# Altium footprint library TerminalBlock_Dinkle.PcbLib: 29 footprints (part 1 of 2)
Each footprint in its own frame and in the unit in brackets; x right, y up, seen from the top. Pads: shape width x height; smd on the part's side, far side on the other; paste and mask are expansions set on the pad; w line width, h text height; cw(c..) or ccw(c..) is an arc to the next point about the centre after c.
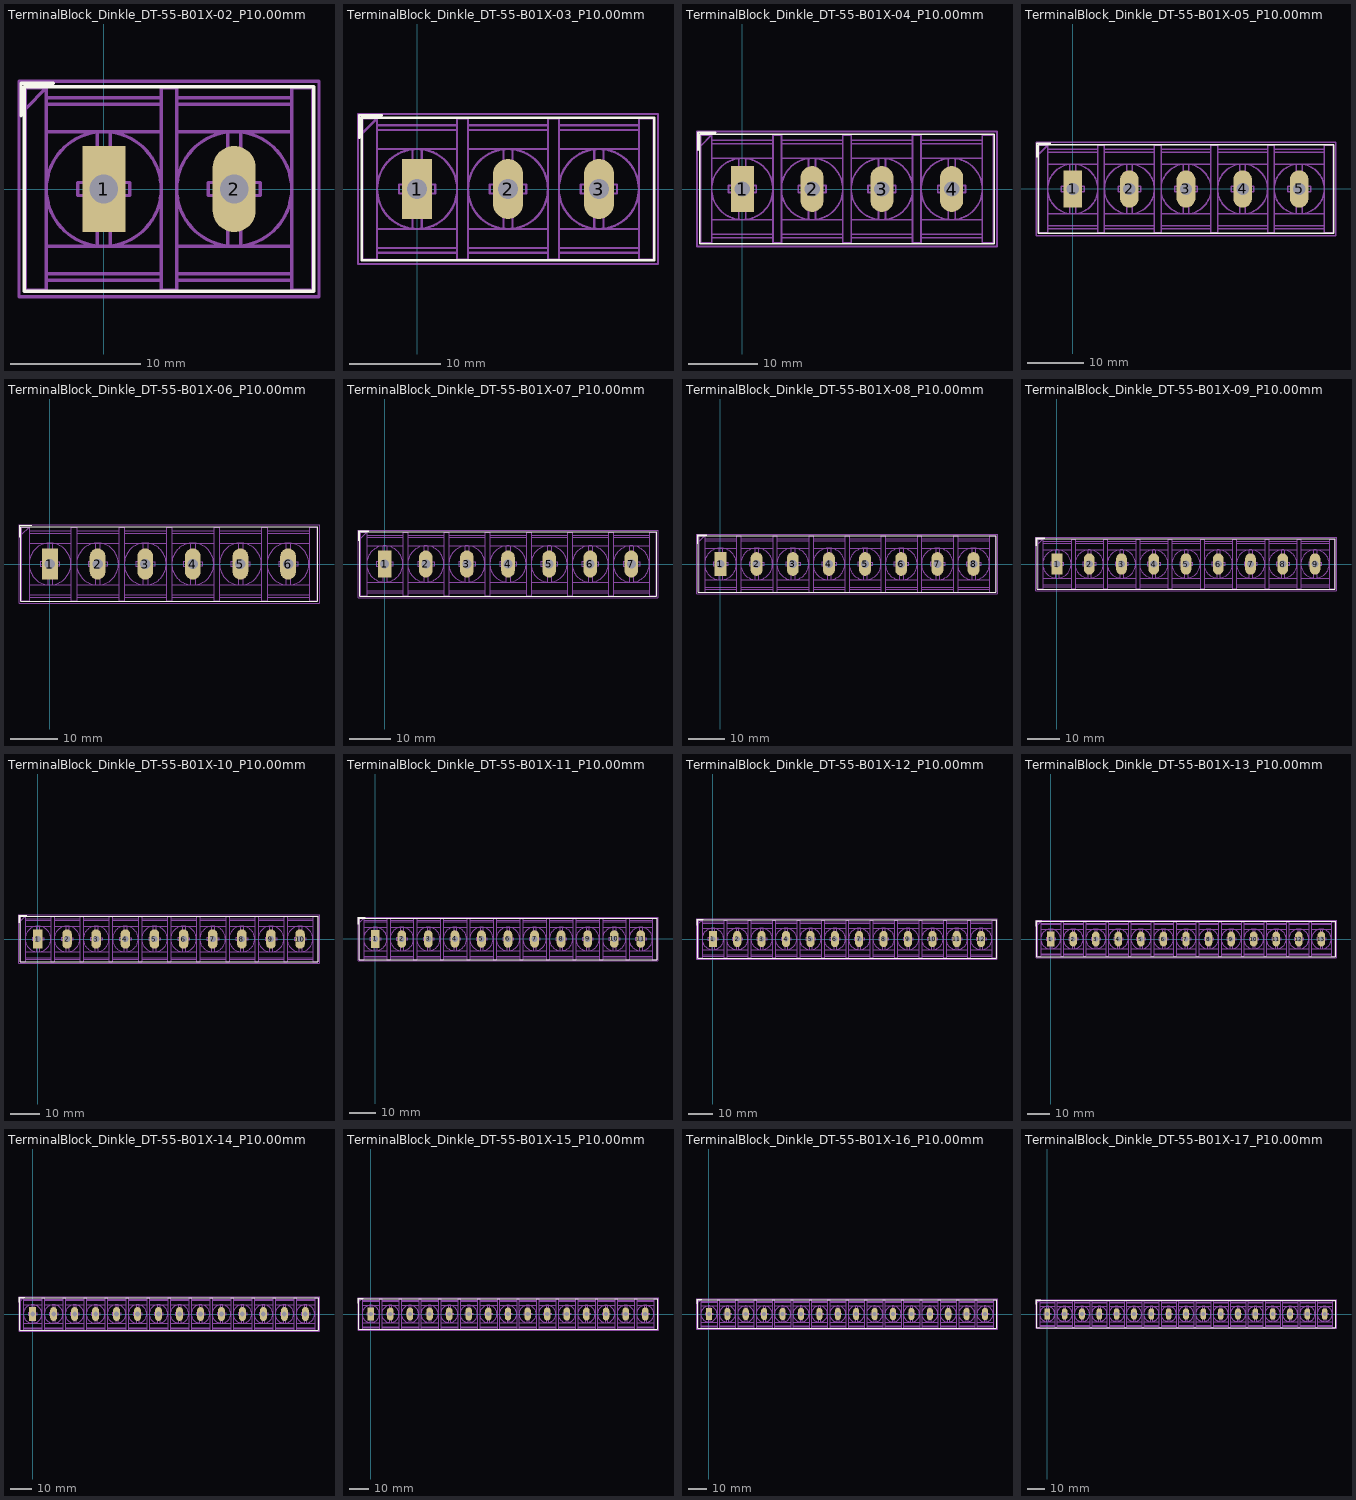
[diagram p0: the footprints below, top view; thin cyan lines are the x and y axes]

## TerminalBlock_Dinkle_DT-55-B01X-02_P10.00mm [mm]
pads (2):
  rect 3.3x6.6 hole 2.2: 1(0,0)
  rrect100% 3.3x6.6 hole 2.2: 2(10,0)
F.SilkS:
  lines w0.254: -6.35,5.6 -6.35,8.1 -3.85,8.1 ; -6.1,-7.85 -6.1,7.85 16.1,7.85 16.1,-7.85 -6.1,-7.85
F.Fab:
  circle w0.254: c0,0 r0.707
  circle w0.254: c0,0 r4.4
  circle w0.254: c10,0 r0.707
  circle w0.254: c10,0 r4.4
  lines w0.254: -6,6.15 -4.4,7.75 ; -4.4,-7 4.4,-7 ; -4.4,-6.5 4.4,-6.5 ; -4.4,-4.4 4.4,-4.4 ; -4.4,4.4 4.4,4.4 ; -4.4,6.5 4.4,6.5 ; -4.4,7 4.4,7 ; -0.5,-4.35 -0.5,-0.5 -2,-0.5 -2,0.5 -0.5,0.5 -0.5,4.35 ; -0.5,-2 0.5,-2 ; -0.5,2 0.5,2 ; 0.5,-4.35 0.5,-0.5 2,-0.5 2,0.5 0.5,0.5 0.5,4.35 ; 5.6,-7 14.4,-7 ; 5.6,-6.5 14.4,-6.5 ; 5.6,-4.4 14.4,-4.4 ; 5.6,4.4 14.4,4.4 ; 5.6,6.5 14.4,6.5 ; 5.6,7 14.4,7 ; 9.5,-4.35 9.5,-0.5 8,-0.5 8,0.5 9.5,0.5 9.5,4.35 ; 9.5,-2 10.5,-2 ; 9.5,2 10.5,2 ; 10.5,-4.35 10.5,-0.5 12,-0.5 12,0.5 10.5,0.5 10.5,4.35 ; -4.4,7.75 -6,7.75 -6,-7.75 -4.4,-7.75 -4.4,7.75 ; 4.4,-7.75 4.4,7.75 5.6,7.75 5.6,-7.75 4.4,-7.75 ; 14.4,-7.75 14.4,7.75 16,7.75 16,-7.75 14.4,-7.75
  text "'.Designator'" at 1.033,9.32 h1
F.CrtYd:
  lines w0.254: -6.5,-8.25 -6.5,8.25 16.5,8.25 16.5,-8.25 -6.5,-8.25

## TerminalBlock_Dinkle_DT-55-B01X-03_P10.00mm [mm]
pads (3):
  rect 3.3x6.6 hole 2.2: 1(0,0)
  rrect100% 3.3x6.6 hole 2.2: 2(10,0) 3(20,0)
F.SilkS:
  lines w0.254: -6.35,5.6 -6.35,8.1 -3.85,8.1 ; -6.1,-7.85 -6.1,7.85 26.1,7.85 26.1,-7.85 -6.1,-7.85
F.Fab:
  circle w0.254: c0,0 r0.707
  circle w0.254: c0,0 r4.4
  circle w0.254: c10,0 r0.707
  circle w0.254: c10,0 r4.4
  circle w0.254: c20,0 r0.707
  circle w0.254: c20,0 r4.4
  lines w0.254: -6,6.15 -4.4,7.75 ; -4.4,-7 4.4,-7 ; -4.4,-6.5 4.4,-6.5 ; -4.4,-4.4 4.4,-4.4 ; -4.4,4.4 4.4,4.4 ; -4.4,6.5 4.4,6.5 ; -4.4,7 4.4,7 ; -0.5,-4.35 -0.5,-0.5 -2,-0.5 -2,0.5 -0.5,0.5 -0.5,4.35 ; -0.5,-2 0.5,-2 ; -0.5,2 0.5,2 ; 0.5,-4.35 0.5,-0.5 2,-0.5 2,0.5 0.5,0.5 0.5,4.35 ; 5.6,-7 14.4,-7 ; 5.6,-6.5 14.4,-6.5 ; 5.6,-4.4 14.4,-4.4 ; 5.6,4.4 14.4,4.4 ; 5.6,6.5 14.4,6.5 ; 5.6,7 14.4,7 ; 9.5,-4.35 9.5,-0.5 8,-0.5 8,0.5 9.5,0.5 9.5,4.35 ; 9.5,-2 10.5,-2 ; 9.5,2 10.5,2 ; 10.5,-4.35 10.5,-0.5 12,-0.5 12,0.5 10.5,0.5 10.5,4.35 ; 15.6,-7 24.4,-7 ; 15.6,-6.5 24.4,-6.5 ; 15.6,-4.4 24.4,-4.4 ; 15.6,4.4 24.4,4.4 ; 15.6,6.5 24.4,6.5 ; 15.6,7 24.4,7 ; 19.5,-4.35 19.5,-0.5 18,-0.5 18,0.5 19.5,0.5 19.5,4.35 ; 19.5,-2 20.5,-2 ; 19.5,2 20.5,2 ; 20.5,-4.35 20.5,-0.5 22,-0.5 22,0.5 20.5,0.5 20.5,4.35 ; -4.4,7.75 -6,7.75 -6,-7.75 -4.4,-7.75 -4.4,7.75 ; 4.4,-7.75 4.4,7.75 5.6,7.75 5.6,-7.75 4.4,-7.75 ; 14.4,-7.75 14.4,7.75 15.6,7.75 15.6,-7.75 14.4,-7.75 ; 24.4,-7.75 24.4,7.75 26,7.75 26,-7.75 24.4,-7.75
  text "'.Designator'" at 6.033,9.32 h1
F.CrtYd:
  lines w0.254: -6.5,-8.25 -6.5,8.25 26.5,8.25 26.5,-8.25 -6.5,-8.25

## TerminalBlock_Dinkle_DT-55-B01X-04_P10.00mm [mm]
pads (4):
  rect 3.3x6.6 hole 2.2: 1(0,0)
  rrect100% 3.3x6.6 hole 2.2: 2(10,0) 3(20,0) 4(30,0)
F.SilkS:
  lines w0.254: -6.35,5.6 -6.35,8.1 -3.85,8.1 ; -6.1,-7.85 -6.1,7.85 36.1,7.85 36.1,-7.85 -6.1,-7.85
F.Fab:
  circle w0.254: c0,0 r0.707
  circle w0.254: c0,0 r4.4
  circle w0.254: c10,0 r0.707
  circle w0.254: c10,0 r4.4
  circle w0.254: c20,0 r0.707
  circle w0.254: c20,0 r4.4
  circle w0.254: c30,0 r0.707
  circle w0.254: c30,0 r4.4
  lines w0.254: -6,6.15 -4.4,7.75 ; -4.4,-7 4.4,-7 ; -4.4,-6.5 4.4,-6.5 ; -4.4,-4.4 4.4,-4.4 ; -4.4,4.4 4.4,4.4 ; -4.4,6.5 4.4,6.5 ; -4.4,7 4.4,7 ; -0.5,-4.35 -0.5,-0.5 -2,-0.5 -2,0.5 -0.5,0.5 -0.5,4.35 ; -0.5,-2 0.5,-2 ; -0.5,2 0.5,2 ; 0.5,-4.35 0.5,-0.5 2,-0.5 2,0.5 0.5,0.5 0.5,4.35 ; 5.6,-7 14.4,-7 ; 5.6,-6.5 14.4,-6.5 ; 5.6,-4.4 14.4,-4.4 ; 5.6,4.4 14.4,4.4 ; 5.6,6.5 14.4,6.5 ; 5.6,7 14.4,7 ; 9.5,-4.35 9.5,-0.5 8,-0.5 8,0.5 9.5,0.5 9.5,4.35 ; 9.5,-2 10.5,-2 ; 9.5,2 10.5,2 ; 10.5,-4.35 10.5,-0.5 12,-0.5 12,0.5 10.5,0.5 10.5,4.35 ; 15.6,-7 24.4,-7 ; 15.6,-6.5 24.4,-6.5 ; 15.6,-4.4 24.4,-4.4 ; 15.6,4.4 24.4,4.4 ; 15.6,6.5 24.4,6.5 ; 15.6,7 24.4,7 ; 19.5,-4.35 19.5,-0.5 18,-0.5 18,0.5 19.5,0.5 19.5,4.35 ; 19.5,-2 20.5,-2 ; 19.5,2 20.5,2 ; 20.5,-4.35 20.5,-0.5 22,-0.5 22,0.5 20.5,0.5 20.5,4.35 ; 25.6,-7 34.4,-7 ; 25.6,-6.5 34.4,-6.5 ; 25.6,-4.4 34.4,-4.4 ; 25.6,4.4 34.4,4.4 ; 25.6,6.5 34.4,6.5 ; 25.6,7 34.4,7 ; 29.5,-4.35 29.5,-0.5 28,-0.5 28,0.5 29.5,0.5 29.5,4.35 ; 29.5,-2 30.5,-2 ; 29.5,2 30.5,2 ; 30.5,-4.35 30.5,-0.5 32,-0.5 32,0.5 30.5,0.5 30.5,4.35 ; -4.4,7.75 -6,7.75 -6,-7.75 -4.4,-7.75 -4.4,7.75 ; 4.4,-7.75 4.4,7.75 5.6,7.75 5.6,-7.75 4.4,-7.75 ; 14.4,-7.75 14.4,7.75 15.6,7.75 15.6,-7.75 14.4,-7.75 ; 24.4,-7.75 24.4,7.75 25.6,7.75 25.6,-7.75 24.4,-7.75 ; 34.4,-7.75 34.4,7.75 36,7.75 36,-7.75 34.4,-7.75
  text "'.Designator'" at 11.033,9.32 h1
F.CrtYd:
  lines w0.254: -6.5,-8.25 -6.5,8.25 36.5,8.25 36.5,-8.25 -6.5,-8.25

## TerminalBlock_Dinkle_DT-55-B01X-05_P10.00mm [mm]
pads (5):
  rect 3.3x6.6 hole 2.2: 1(0,0)
  rrect100% 3.3x6.6 hole 2.2: 2(10,0) 3(20,0) 4(30,0) 5(40,0)
F.SilkS:
  lines w0.254: -6.35,5.6 -6.35,8.1 -3.85,8.1 ; -6.1,-7.85 -6.1,7.85 46.1,7.85 46.1,-7.85 -6.1,-7.85
F.Fab:
  circle w0.254: c0,0 r0.707
  circle w0.254: c0,0 r4.4
  circle w0.254: c10,0 r0.707
  circle w0.254: c10,0 r4.4
  circle w0.254: c20,0 r0.707
  circle w0.254: c20,0 r4.4
  circle w0.254: c30,0 r0.707
  circle w0.254: c30,0 r4.4
  circle w0.254: c40,0 r0.707
  circle w0.254: c40,0 r4.4
  lines w0.254: -6,6.15 -4.4,7.75 ; -4.4,-7 4.4,-7 ; -4.4,-6.5 4.4,-6.5 ; -4.4,-4.4 4.4,-4.4 ; -4.4,4.4 4.4,4.4 ; -4.4,6.5 4.4,6.5 ; -4.4,7 4.4,7 ; -0.5,-4.35 -0.5,-0.5 -2,-0.5 -2,0.5 -0.5,0.5 -0.5,4.35 ; -0.5,-2 0.5,-2 ; -0.5,2 0.5,2 ; 0.5,-4.35 0.5,-0.5 2,-0.5 2,0.5 0.5,0.5 0.5,4.35 ; 5.6,-7 14.4,-7 ; 5.6,-6.5 14.4,-6.5 ; 5.6,-4.4 14.4,-4.4 ; 5.6,4.4 14.4,4.4 ; 5.6,6.5 14.4,6.5 ; 5.6,7 14.4,7 ; 9.5,-4.35 9.5,-0.5 8,-0.5 8,0.5 9.5,0.5 9.5,4.35 ; 9.5,-2 10.5,-2 ; 9.5,2 10.5,2 ; 10.5,-4.35 10.5,-0.5 12,-0.5 12,0.5 10.5,0.5 10.5,4.35 ; 15.6,-7 24.4,-7 ; 15.6,-6.5 24.4,-6.5 ; 15.6,-4.4 24.4,-4.4 ; 15.6,4.4 24.4,4.4 ; 15.6,6.5 24.4,6.5 ; 15.6,7 24.4,7 ; 19.5,-4.35 19.5,-0.5 18,-0.5 18,0.5 19.5,0.5 19.5,4.35 ; 19.5,-2 20.5,-2 ; 19.5,2 20.5,2 ; 20.5,-4.35 20.5,-0.5 22,-0.5 22,0.5 20.5,0.5 20.5,4.35 ; 25.6,-7 34.4,-7 ; 25.6,-6.5 34.4,-6.5 ; 25.6,-4.4 34.4,-4.4 ; 25.6,4.4 34.4,4.4 ; 25.6,6.5 34.4,6.5 ; 25.6,7 34.4,7 ; 29.5,-4.35 29.5,-0.5 28,-0.5 28,0.5 29.5,0.5 29.5,4.35 ; 29.5,-2 30.5,-2 ; 29.5,2 30.5,2 ; 30.5,-4.35 30.5,-0.5 32,-0.5 32,0.5 30.5,0.5 30.5,4.35 ; 35.6,-7 44.4,-7 ; 35.6,-6.5 44.4,-6.5 ; 35.6,-4.4 44.4,-4.4 ; 35.6,4.4 44.4,4.4 ; 35.6,6.5 44.4,6.5 ; 35.6,7 44.4,7 ; 39.5,-4.35 39.5,-0.5 38,-0.5 38,0.5 39.5,0.5 39.5,4.35 ; 39.5,-2 40.5,-2 ; 39.5,2 40.5,2 ; 40.5,-4.35 40.5,-0.5 42,-0.5 42,0.5 40.5,0.5 40.5,4.35 ; -4.4,7.75 -6,7.75 -6,-7.75 -4.4,-7.75 -4.4,7.75 ; 4.4,-7.75 4.4,7.75 5.6,7.75 5.6,-7.75 4.4,-7.75 ; 14.4,-7.75 14.4,7.75 15.6,7.75 15.6,-7.75 14.4,-7.75 ; 24.4,-7.75 24.4,7.75 25.6,7.75 25.6,-7.75 24.4,-7.75 ; 34.4,-7.75 34.4,7.75 35.6,7.75 35.6,-7.75 34.4,-7.75 ; 44.4,-7.75 44.4,7.75 46,7.75 46,-7.75 44.4,-7.75
  text "'.Designator'" at 16.033,9.32 h1
F.CrtYd:
  lines w0.254: -6.5,-8.25 -6.5,8.25 46.5,8.25 46.5,-8.25 -6.5,-8.25

## TerminalBlock_Dinkle_DT-55-B01X-06_P10.00mm [mm]
pads (6):
  rect 3.3x6.6 hole 2.2: 1(0,0)
  rrect100% 3.3x6.6 hole 2.2: 2(10,0) 3(20,0) 4(30,0) 5(40,0) 6(50,0)
F.SilkS:
  lines w0.254: -6.35,5.6 -6.35,8.1 -3.85,8.1 ; -6.1,-7.85 -6.1,7.85 56.1,7.85 56.1,-7.85 -6.1,-7.85
F.Fab:
  circle w0.254: c0,0 r0.707
  circle w0.254: c0,0 r4.4
  circle w0.254: c10,0 r0.707
  circle w0.254: c10,0 r4.4
  circle w0.254: c20,0 r0.707
  circle w0.254: c20,0 r4.4
  circle w0.254: c30,0 r0.707
  circle w0.254: c30,0 r4.4
  circle w0.254: c40,0 r0.707
  circle w0.254: c40,0 r4.4
  circle w0.254: c50,0 r0.707
  circle w0.254: c50,0 r4.4
  lines w0.254: -6,6.15 -4.4,7.75 ; -4.4,-7 4.4,-7 ; -4.4,-6.5 4.4,-6.5 ; -4.4,-4.4 4.4,-4.4 ; -4.4,4.4 4.4,4.4 ; -4.4,6.5 4.4,6.5 ; -4.4,7 4.4,7 ; -0.5,-4.35 -0.5,-0.5 -2,-0.5 -2,0.5 -0.5,0.5 -0.5,4.35 ; -0.5,-2 0.5,-2 ; -0.5,2 0.5,2 ; 0.5,-4.35 0.5,-0.5 2,-0.5 2,0.5 0.5,0.5 0.5,4.35 ; 5.6,-7 14.4,-7 ; 5.6,-6.5 14.4,-6.5 ; 5.6,-4.4 14.4,-4.4 ; 5.6,4.4 14.4,4.4 ; 5.6,6.5 14.4,6.5 ; 5.6,7 14.4,7 ; 9.5,-4.35 9.5,-0.5 8,-0.5 8,0.5 9.5,0.5 9.5,4.35 ; 9.5,-2 10.5,-2 ; 9.5,2 10.5,2 ; 10.5,-4.35 10.5,-0.5 12,-0.5 12,0.5 10.5,0.5 10.5,4.35 ; 15.6,-7 24.4,-7 ; 15.6,-6.5 24.4,-6.5 ; 15.6,-4.4 24.4,-4.4 ; 15.6,4.4 24.4,4.4 ; 15.6,6.5 24.4,6.5 ; 15.6,7 24.4,7 ; 19.5,-4.35 19.5,-0.5 18,-0.5 18,0.5 19.5,0.5 19.5,4.35 ; 19.5,-2 20.5,-2 ; 19.5,2 20.5,2 ; 20.5,-4.35 20.5,-0.5 22,-0.5 22,0.5 20.5,0.5 20.5,4.35 ; 25.6,-7 34.4,-7 ; 25.6,-6.5 34.4,-6.5 ; 25.6,-4.4 34.4,-4.4 ; 25.6,4.4 34.4,4.4 ; 25.6,6.5 34.4,6.5 ; 25.6,7 34.4,7 ; 29.5,-4.35 29.5,-0.5 28,-0.5 28,0.5 29.5,0.5 29.5,4.35 ; 29.5,-2 30.5,-2 ; 29.5,2 30.5,2 ; 30.5,-4.35 30.5,-0.5 32,-0.5 32,0.5 30.5,0.5 30.5,4.35 ; 35.6,-7 44.4,-7 ; 35.6,-6.5 44.4,-6.5 ; 35.6,-4.4 44.4,-4.4 ; 35.6,4.4 44.4,4.4 ; 35.6,6.5 44.4,6.5 ; 35.6,7 44.4,7 ; 39.5,-4.35 39.5,-0.5 38,-0.5 38,0.5 39.5,0.5 39.5,4.35 ; 39.5,-2 40.5,-2 ; 39.5,2 40.5,2 ; 40.5,-4.35 40.5,-0.5 42,-0.5 42,0.5 40.5,0.5 40.5,4.35 ; 45.6,-7 54.4,-7 ; 45.6,-6.5 54.4,-6.5 ; 45.6,-4.4 54.4,-4.4 ; 45.6,4.4 54.4,4.4 ; 45.6,6.5 54.4,6.5 ; 45.6,7 54.4,7 ; 49.5,-4.35 49.5,-0.5 48,-0.5 48,0.5 49.5,0.5 49.5,4.35 ; 49.5,-2 50.5,-2 ; 49.5,2 50.5,2 ; 50.5,-4.35 50.5,-0.5 52,-0.5 52,0.5 50.5,0.5 50.5,4.35 ; -4.4,7.75 -6,7.75 -6,-7.75 -4.4,-7.75 -4.4,7.75 ; 4.4,-7.75 4.4,7.75 5.6,7.75 5.6,-7.75 4.4,-7.75 ; 14.4,-7.75 14.4,7.75 15.6,7.75 15.6,-7.75 14.4,-7.75 ; 24.4,-7.75 24.4,7.75 25.6,7.75 25.6,-7.75 24.4,-7.75 ; 34.4,-7.75 34.4,7.75 35.6,7.75 35.6,-7.75 34.4,-7.75 ; 44.4,-7.75 44.4,7.75 45.6,7.75 45.6,-7.75 44.4,-7.75 ; 54.4,-7.75 54.4,7.75 56,7.75 56,-7.75 54.4,-7.75
  text "'.Designator'" at 21.033,9.32 h1
F.CrtYd:
  lines w0.254: -6.5,-8.25 -6.5,8.25 56.5,8.25 56.5,-8.25 -6.5,-8.25

## TerminalBlock_Dinkle_DT-55-B01X-07_P10.00mm [mm]
pads (7):
  rect 3.3x6.6 hole 2.2: 1(0,0)
  rrect100% 3.3x6.6 hole 2.2: 2(10,0) 3(20,0) 4(30,0) 5(40,0) 6(50,0) 7(60,0)
F.SilkS:
  lines w0.254: -6.35,5.6 -6.35,8.1 -3.85,8.1 ; -6.1,-7.85 -6.1,7.85 66.1,7.85 66.1,-7.85 -6.1,-7.85
F.Fab:
  drawing of 173 lines, arcs and shapes, not listed
  text "'.Designator'" at 26.033,9.32 h1
F.CrtYd:
  lines w0.254: -6.5,-8.25 -6.5,8.25 66.5,8.25 66.5,-8.25 -6.5,-8.25

## TerminalBlock_Dinkle_DT-55-B01X-08_P10.00mm [mm]
pads (8):
  rect 3.3x6.6 hole 2.2: 1(0,0)
  rrect100% 3.3x6.6 hole 2.2: 2(10,0) 3(20,0) 4(30,0) 5(40,0) 6(50,0) 7(60,0) 8(70,0)
F.SilkS:
  lines w0.254: -6.35,5.6 -6.35,8.1 -3.85,8.1 ; -6.1,-7.85 -6.1,7.85 76.1,7.85 76.1,-7.85 -6.1,-7.85
F.Fab:
  drawing of 197 lines, arcs and shapes, not listed
  text "'.Designator'" at 31.033,9.32 h1
F.CrtYd:
  lines w0.254: -6.5,-8.25 -6.5,8.25 76.5,8.25 76.5,-8.25 -6.5,-8.25

## TerminalBlock_Dinkle_DT-55-B01X-09_P10.00mm [mm]
pads (9):
  rect 3.3x6.6 hole 2.2: 1(0,0)
  rrect100% 3.3x6.6 hole 2.2: 2(10,0) 3(20,0) 4(30,0) 5(40,0) 6(50,0) 7(60,0) 8(70,0) 9(80,0)
F.SilkS:
  lines w0.254: -6.35,5.6 -6.35,8.1 -3.85,8.1 ; -6.1,-7.85 -6.1,7.85 86.1,7.85 86.1,-7.85 -6.1,-7.85
F.Fab:
  drawing of 221 lines, arcs and shapes, not listed
  text "'.Designator'" at 36.033,9.32 h1
F.CrtYd:
  lines w0.254: -6.5,-8.25 -6.5,8.25 86.5,8.25 86.5,-8.25 -6.5,-8.25

## TerminalBlock_Dinkle_DT-55-B01X-10_P10.00mm [mm]
pads (10):
  rect 3.3x6.6 hole 2.2: 1(0,0)
  rrect100% 3.3x6.6 hole 2.2: 2(10,0) 3(20,0) 4(30,0) 5(40,0) 6(50,0) 7(60,0) 8(70,0) 9(80,0) 10(90,0)
F.SilkS:
  lines w0.254: -6.35,5.6 -6.35,8.1 -3.85,8.1 ; -6.1,-7.85 -6.1,7.85 96.1,7.85 96.1,-7.85 -6.1,-7.85
F.Fab:
  drawing of 245 lines, arcs and shapes, not listed
  text "'.Designator'" at 41.033,9.32 h1
F.CrtYd:
  lines w0.254: -6.5,-8.25 -6.5,8.25 96.5,8.25 96.5,-8.25 -6.5,-8.25

## TerminalBlock_Dinkle_DT-55-B01X-11_P10.00mm [mm]
pads (11):
  rect 3.3x6.6 hole 2.2: 1(0,0)
  rrect100% 3.3x6.6 hole 2.2: 2(10,0) 3(20,0) 4(30,0) 5(40,0) 6(50,0) 7(60,0) 8(70,0) 9(80,0) 10(90,0) 11(100,0)
F.SilkS:
  lines w0.254: -6.35,5.6 -6.35,8.1 -3.85,8.1 ; -6.1,-7.85 -6.1,7.85 106.1,7.85 106.1,-7.85 -6.1,-7.85
F.Fab:
  drawing of 269 lines, arcs and shapes, not listed
  text "'.Designator'" at 46.033,9.32 h1
F.CrtYd:
  lines w0.254: -6.5,-8.25 -6.5,8.25 106.5,8.25 106.5,-8.25 -6.5,-8.25

## TerminalBlock_Dinkle_DT-55-B01X-12_P10.00mm [mm]
pads (12):
  rect 3.3x6.6 hole 2.2: 1(0,0)
  rrect100% 3.3x6.6 hole 2.2: 2(10,0) 3(20,0) 4(30,0) 5(40,0) 6(50,0) 7(60,0) 8(70,0) 9(80,0) 10(90,0) 11(100,0) 12(110,0)
F.SilkS:
  lines w0.254: -6.35,5.6 -6.35,8.1 -3.85,8.1 ; -6.1,-7.85 -6.1,7.85 116.1,7.85 116.1,-7.85 -6.1,-7.85
F.Fab:
  drawing of 293 lines, arcs and shapes, not listed
  text "'.Designator'" at 51.033,9.32 h1
F.CrtYd:
  lines w0.254: -6.5,-8.25 -6.5,8.25 116.5,8.25 116.5,-8.25 -6.5,-8.25

## TerminalBlock_Dinkle_DT-55-B01X-13_P10.00mm [mm]
pads (13):
  rect 3.3x6.6 hole 2.2: 1(0,0)
  rrect100% 3.3x6.6 hole 2.2: 2(10,0) 3(20,0) 4(30,0) 5(40,0) 6(50,0) 7(60,0) 8(70,0) 9(80,0) 10(90,0) 11(100,0) 12(110,0) 13(120,0)
F.SilkS:
  lines w0.254: -6.35,5.6 -6.35,8.1 -3.85,8.1 ; -6.1,-7.85 -6.1,7.85 126.1,7.85 126.1,-7.85 -6.1,-7.85
F.Fab:
  drawing of 317 lines, arcs and shapes, not listed
  text "'.Designator'" at 56.033,9.32 h1
F.CrtYd:
  lines w0.254: -6.5,-8.25 -6.5,8.25 126.5,8.25 126.5,-8.25 -6.5,-8.25

## TerminalBlock_Dinkle_DT-55-B01X-14_P10.00mm [mm]
pads (14):
  rect 3.3x6.6 hole 2.2: 1(0,0)
  rrect100% 3.3x6.6 hole 2.2: 2(10,0) 3(20,0) 4(30,0) 5(40,0) 6(50,0) 7(60,0) 8(70,0) 9(80,0) 10(90,0) 11(100,0) 12(110,0) 13(120,0) 14(130,0)
F.SilkS:
  lines w0.254: -6.35,5.6 -6.35,8.1 -3.85,8.1 ; -6.1,-7.85 -6.1,7.85 136.1,7.85 136.1,-7.85 -6.1,-7.85
F.Fab:
  drawing of 341 lines, arcs and shapes, not listed
  text "'.Designator'" at 61.033,9.32 h1
F.CrtYd:
  lines w0.254: -6.5,-8.25 -6.5,8.25 136.5,8.25 136.5,-8.25 -6.5,-8.25

## TerminalBlock_Dinkle_DT-55-B01X-15_P10.00mm [mm]
pads (15):
  rect 3.3x6.6 hole 2.2: 1(0,0)
  rrect100% 3.3x6.6 hole 2.2: 2(10,0) 3(20,0) 4(30,0) 5(40,0) 6(50,0) 7(60,0) 8(70,0) 9(80,0) 10(90,0) 11(100,0) 12(110,0) 13(120,0) 14(130,0) 15(140,0)
F.SilkS:
  lines w0.254: -6.35,5.6 -6.35,8.1 -3.85,8.1 ; -6.1,-7.85 -6.1,7.85 146.1,7.85 146.1,-7.85 -6.1,-7.85
F.Fab:
  drawing of 365 lines, arcs and shapes, not listed
  text "'.Designator'" at 66.033,9.32 h1
F.CrtYd:
  lines w0.254: -6.5,-8.25 -6.5,8.25 146.5,8.25 146.5,-8.25 -6.5,-8.25

## TerminalBlock_Dinkle_DT-55-B01X-16_P10.00mm [mm]
pads (16):
  rect 3.3x6.6 hole 2.2: 1(0,0)
  rrect100% 3.3x6.6 hole 2.2: 2(10,0) 3(20,0) 4(30,0) 5(40,0) 6(50,0) 7(60,0) 8(70,0) 9(80,0) 10(90,0) 11(100,0) 12(110,0) 13(120,0) 14(130,0) 15(140,0) 16(150,0)
F.SilkS:
  lines w0.254: -6.35,5.6 -6.35,8.1 -3.85,8.1 ; -6.1,-7.85 -6.1,7.85 156.1,7.85 156.1,-7.85 -6.1,-7.85
F.Fab:
  drawing of 389 lines, arcs and shapes, not listed
  text "'.Designator'" at 71.033,9.32 h1
F.CrtYd:
  lines w0.254: -6.5,-8.25 -6.5,8.25 156.5,8.25 156.5,-8.25 -6.5,-8.25

## TerminalBlock_Dinkle_DT-55-B01X-17_P10.00mm [mm]
pads (17):
  rect 3.3x6.6 hole 2.2: 1(0,0)
  rrect100% 3.3x6.6 hole 2.2: 2(10,0) 3(20,0) 4(30,0) 5(40,0) 6(50,0) 7(60,0) 8(70,0) 9(80,0) 10(90,0) 11(100,0) 12(110,0) 13(120,0) 14(130,0) 15(140,0) 16(150,0) 17(160,0)
F.SilkS:
  lines w0.254: -6.35,5.6 -6.35,8.1 -3.85,8.1 ; -6.1,-7.85 -6.1,7.85 166.1,7.85 166.1,-7.85 -6.1,-7.85
F.Fab:
  drawing of 413 lines, arcs and shapes, not listed
  text "'.Designator'" at 76.033,9.32 h1
F.CrtYd:
  lines w0.254: -6.5,-8.25 -6.5,8.25 166.5,8.25 166.5,-8.25 -6.5,-8.25